# EAGLE library part TDA8138A/B (library st-microelectronics)
The TDA8138 is a monolithic dual positive voltage regulator designed to provide fixed precision output voltages of 5.1V and 12V at currents up to 1A.
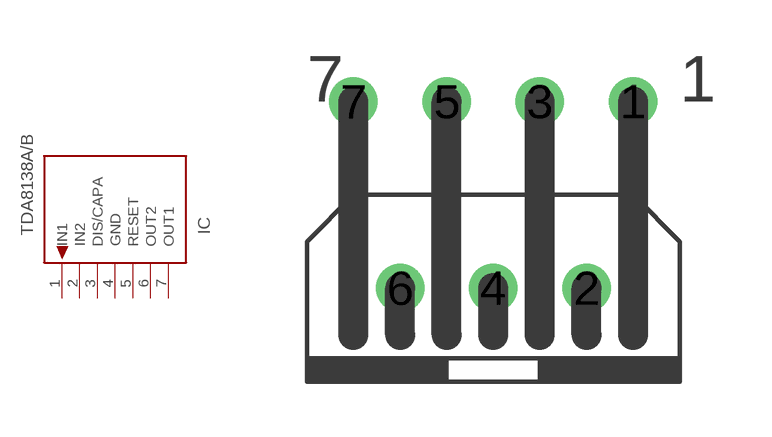
[diagram p55: symbol with the pads of HEPTAWATT; footprint HEPTAWATT]

Designator prefix IC

## TDA8138A/B  [HEPTAWATT]
1  IN1  in
2  IN2  in
3  DIS/CAPA
4  GND  pwr
5  RESET
6  OUT2  out
7  OUT1  out

## Footprint HEPTAWATT (pad centres in mm)
HEPTAWATT 7
drill 0.813: 1 3.81,5.08; 2 2.54,0; 3 1.27,5.08; 4 0,0; 5 -1.27,5.08; 6 -2.54,0; 7 -3.81,5.08